# EAGLE library part BMP280 (library dawidkulpa_dev)
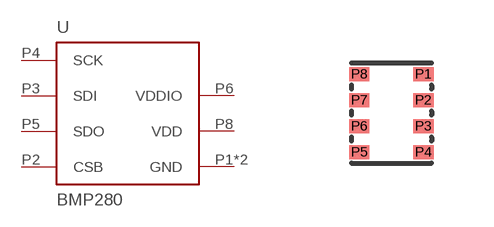
[diagram p24: symbol with the pads of BMP280; footprint BMP280]

Designator prefix -

## BMP280  [BMP280]
P1  GND
P2  CSB
P3  SDI
P4  SCK
P5  SDO
P6  VDDIO
P7  GND
P8  VDD

## Footprint BMP280 (pad centres in mm)
smd 0.5 x 0.35: P1 0.8,0.975; P2 0.8,0.325; P3 0.8,-0.325; P4 0.8,-0.975; P5 -0.8,-0.975; P6 -0.8,-0.325; P7 -0.8,0.325; P8 -0.8,0.975